# EAGLE library part LDS-CD16RI (library samroesch)
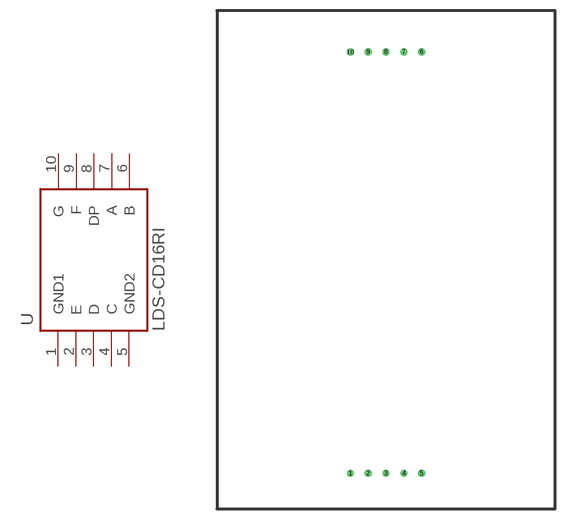
[diagram p1: symbol with the pads of LDS-CD16RI; footprint LDS-CD16RI]

Designator prefix -

## LDS-CD16RI10  [LDS-CD16RI]
1  GND1
2  E
3  D
4  C
5  GND2
6  B
7  A
8  DP
9  F
10  G

## Footprint LDS-CD16RI (pad centres in mm)
drill 0.508 round: 1 -5.08,-30.48; 2 -2.54,-30.48; 3 0,-30.48; 4 2.54,-30.48; 5 5.08,-30.48; 6 5.08,29.642; 7 2.54,29.642; 8 0,29.642; 9 -2.54,29.642; 10 -5.08,29.642